# EAGLE library part DRV8842 (library DRV8842)
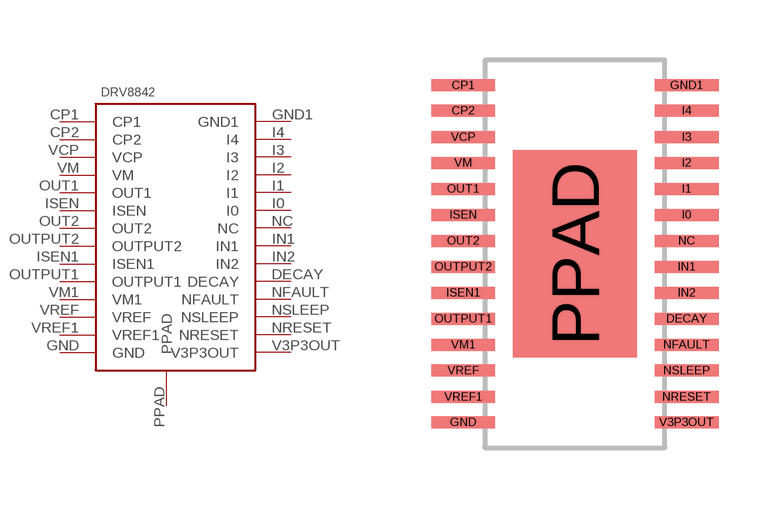
[diagram p0: symbol with the pads of DRV8842; footprint DRV8842]

Designator prefix -

## DRV8842  [DRV8842]
CP1  CP1
CP2  CP2
DECAY  DECAY
GND  GND
GND1  GND1
I0  I0
I1  I1
I2  I2
I3  I3
I4  I4
IN1  IN1
IN2  IN2
ISEN  ISEN
ISEN1  ISEN1
NC  NC
NFAULT  NFAULT
NRESET  NRESET
NSLEEP  NSLEEP
OUT1  OUT1
OUT2  OUT2
OUTPUT1  OUTPUT1
OUTPUT2  OUTPUT2
PPAD  PPAD
V3P3OUT  V3P3OUT
VCP  VCP
VM  VM
VM1  VM1
VREF  VREF
VREF1  VREF1

## Footprint DRV8842 (pad centres in mm)
smd 1.6 x 0.3: CP1 -2.794,4.216; CP2 -2.794,3.581; DECAY 2.794,-1.626; GND -2.794,-4.216; GND1 2.794,4.216; I0 2.794,0.975; I1 2.794,1.626; I2 2.794,2.276; I3 2.794,2.921; I4 2.794,3.581; IN1 2.794,-0.325; IN2 2.794,-0.975; ISEN -2.794,0.975; ISEN1 -2.794,-0.975; NC 2.794,0.325; NFAULT 2.794,-2.276; NRESET 2.794,-3.581; NSLEEP 2.794,-2.921; OUT1 -2.794,1.626; OUT2 -2.794,0.325; OUTPUT1 -2.794,-1.626; OUTPUT2 -2.794,-0.325; V3P3OUT 2.794,-4.216; VCP -2.794,2.921; VM -2.794,2.276; VM1 -2.794,-2.276; VREF -2.794,-2.921; VREF1 -2.794,-3.581
smd 3.099 x 5.182: PPAD 0,0